# Altium footprint library SM_ESP32-WROOM.PcbLib: 1 footprints
Each footprint in its own frame and in the unit in brackets; x right, y up, seen from the top. Pads: shape width x height; smd on the part's side, far side on the other; paste and mask are expansions set on the pad; w line width, h text height; cw(c..) or ccw(c..) is an arc to the next point about the centre after c.
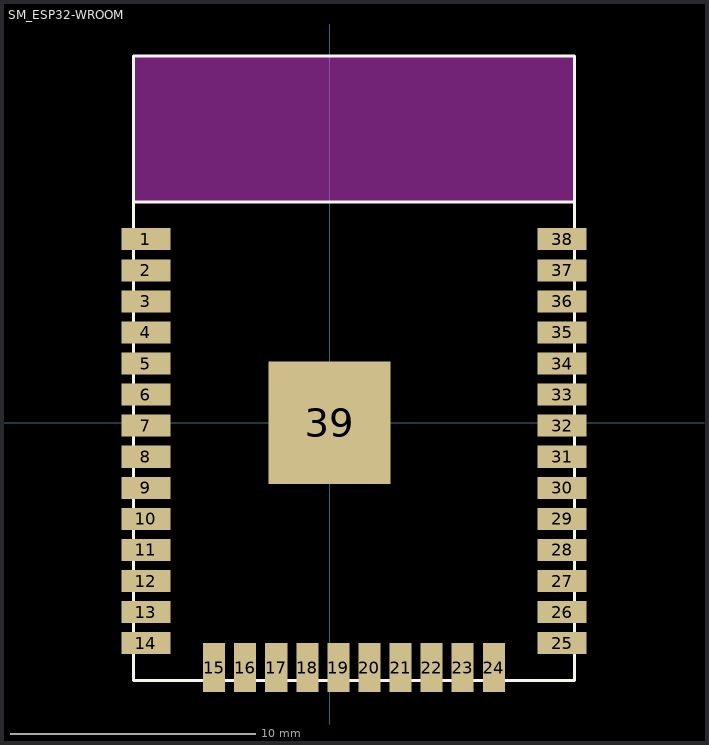
[diagram p0: the footprint, top view; thin cyan lines are the x and y axes]

## SM_ESP32-WROOM [mm] "ESP32 Module"
height 3.25
pads (39):
  rect 2x0.9 smd: 1(-7.5,7.5) 2(-7.5,6.23) 3(-7.5,4.96) 4(-7.5,3.69) 5(-7.5,2.42) 6(-7.5,1.15) 7(-7.5,-0.12) 8(-7.5,-1.39) 9(-7.5,-2.66) 10(-7.5,-3.93) 11(-7.5,-5.2) 12(-7.5,-6.47) 13(-7.5,-7.74) 14(-7.5,-9.01) 25(9.5,-9.01) 26(9.5,-7.74) 27(9.5,-6.47) 28(9.5,-5.2) 29(9.5,-3.93) 30(9.5,-2.66) 31(9.5,-1.39) 32(9.5,-0.12) 33(9.5,1.15) 34(9.5,2.42) 35(9.5,3.69) 36(9.5,4.96) 37(9.5,6.23) 38(9.5,7.5)
  rect 0.9x2 smd: 15(-4.715,-10.01) 16(-3.447,-10.01) 17(-2.177,-10.01) 18(-0.907,-10.01) 19(0.363,-10.01) 20(1.633,-10.01) 21(2.903,-10.01) 22(4.173,-10.01) 23(5.443,-10.01) 24(6.713,-10.01)
  rect 5x5 smd: 39(0,0)
Top Overlay:
  lines w0.127: -8.017,9.024 10.017,9.024 ; -8.017,-10.534 10.017,-10.534 10.017,14.993 -8.017,14.993 -8.017,-10.534
Keep-Out Layer:
  rectangle: -8.017,9.024 10.017,14.993
3D body: height 3.3, standoff 0.8, extent -7.382,-9.899 9.509,9.024
3D body: height 0.9, standoff 0, extent -8.017,-10.534 10.017,14.993